# Altium footprint library TRACK_ALL_LAYERS.PcbLib: 1 footprints
Each footprint in its own frame and in the unit in brackets; x right, y up, seen from the top. Pads: shape width x height; smd on the part's side, far side on the other; paste and mask are expansions set on the pad; w line width, h text height; cw(c..) or ccw(c..) is an arc to the next point about the centre after c.
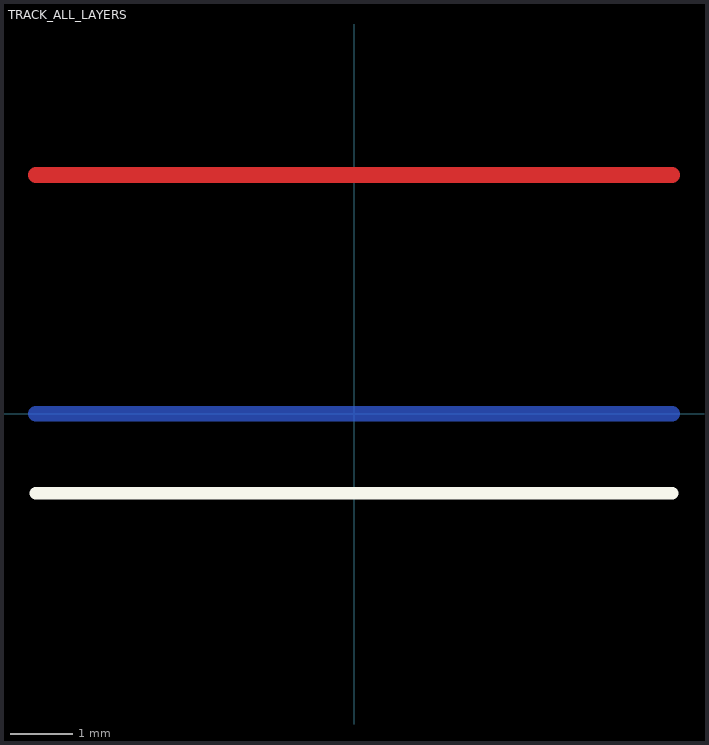
[diagram p0: the footprint, top view; thin cyan lines are the x and y axes]

## TRACK_ALL_LAYERS [mm] "Tracks on all signal layers"
Top Layer:
  lines w0.254: -5.08,3.81 5.08,3.81
Mid-Layer 1:
  lines w0.254: -5.08,2.54 5.08,2.54
Mid-Layer 2:
  lines w0.254: -5.08,1.27 5.08,1.27
Bottom Layer:
  lines w0.254: -5.08,0 5.08,0
Top Overlay:
  lines w0.203: -5.08,-1.27 5.08,-1.27
Bottom Overlay:
  lines w0.203: -5.08,-2.54 5.08,-2.54